# Altium integrated library Rosenberger SMP.IntLib: 18 symbols
Pins are listed as number, name and electrical type; pins without a type are passive.

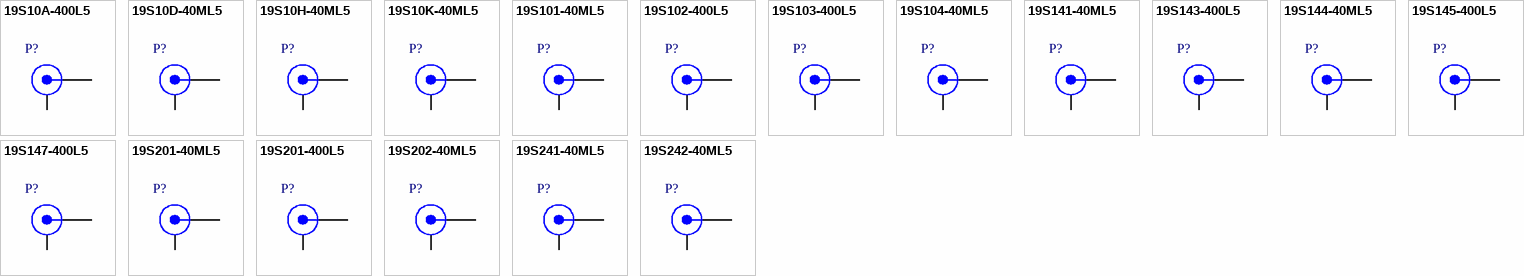
[diagram p0: symbols 19S10A-400L5 to 19S242-40ML5]

## 19S10A-400L5
designator P?
SMP Straight Plug, Limited Detent, Small, Up to 26.5 GHz, -65 to 155 degC; PartNumber: 19S10A-400L5; Design Note: Footprint in library is a generic example - only application specific footprint delivers High Performance; DatasheetVersion: f00; PackageVersion: f00; PackageReference: 19S10A-400L5; PackageDescription: SMP Straight Plug Limited Detent, Small, 6.5 x 6 x 5.4 mm; Detention force: limited detent; Mounting Technology: Through Hole; Lock-in Range: small; ComponentLink1Description: Manufacturer URL; ComponentLink1URL: http://www.rosenberger.de; ComponentLink2Description: Datasheet; ComponentLink2URL: http://rosenberger.de/ok/images/documents/db/19s10a-400L5.pdf; ComponentLink3Description: Package Specification; ComponentLink3URL: http://rosenberger.de/ok/images/documents/db/19s10a-400L5.pdf; ComponentLink4Description: Series Overview / Design Note; ComponentLink4URL: http://rosenberger.de/ok/images/documents/spez/19.pdf; ComponentLink5Description: Webshop / RFQ; ComponentLink5URL: http://www.rosenberger.com/en/contact/sales/
footprint ROS-19S10A-400L5_V (SMP Straight Plug Limited Detent, Small, 6.5x6x5.4mm, Rosenberger Recommended)
pins: 1, MH

## 19S10D-40ML5
designator P?
SMP Straight Plug, Limited Detent, Small, Up to 26.5 GHz, -65 to 155 degC; PartNumber: 19S10D-40ML5; Design Note: Footprint in library is a generic example - only application specific footprint delivers High Performance; DatasheetVersion: b00; PackageVersion: b00; PackageReference: 19S10D-40ML5; PackageDescription: SMP Straight Plug Limited Detent, Small, 6.5 x 6 x 0.7 mm; Detention force: limited detent; Mounting Technology: Surface Mount; Lock-in Range: small; ComponentLink1Description: Manufacturer URL; ComponentLink1URL: http://www.rosenberger.de; ComponentLink2Description: Datasheet; ComponentLink2URL: http://rosenberger.de/ok/images/documents/db/19S10D-40ML5.pdf; ComponentLink3Description: Package Specification; ComponentLink3URL: http://rosenberger.de/ok/images/documents/db/19S10D-40ML5.pdf; ComponentLink4Description: Series Overview / Design Note; ComponentLink4URL: http://rosenberger.de/ok/images/documents/spez/19.pdf; ComponentLink5Description: Webshop / RFQ; ComponentLink5URL: http://www.rosenberger.com/en/contact/sales/
footprint ROS-19S10D-40ML5_V (SMP Straight Plug Limited Detent, Small, 6.5x6x0.7mm, Rosenberger Recommended)
pins: 1, MP

## 19S10H-40ML5
designator P?
SMP Straight Plug, Limited Detent, Small, Up to 26.5 GHz, -65 to 155 degC; PartNumber: 19S10H-40ML5; Design Note: Footprint in library is a generic example - only application specific footprint delivers High Performance; DatasheetVersion: b00; PackageVersion: b00; PackageReference: 19S10H-40ML5; PackageDescription: SMP Straight Plug Limited Detent, Small, 6 x 5 x 5.4 mm; Detention force: limited detent; Mounting Technology: Surface Mount; Lock-in Range: small; ComponentLink1Description: Manufacturer URL; ComponentLink1URL: http://www.rosenberger.de; ComponentLink2Description: Datasheet; ComponentLink2URL: http://rosenberger.de/ok/images/documents/db/19S10H-40ML5.pdf; ComponentLink3Description: Package Specification; ComponentLink3URL: http://rosenberger.de/ok/images/documents/db/19S10H-40ML5.pdf; ComponentLink4Description: Series Overview / Design Note; ComponentLink4URL: http://rosenberger.de/ok/images/documents/spez/19.pdf; ComponentLink5Description: Webshop / RFQ; ComponentLink5URL: http://www.rosenberger.com/en/contact/sales/
footprint ROS-19S10H-40ML5_V (SMP Straight Plug Limited Detent, Small, 6x5x5.4mm, Rosenberger Recommended)
pins: 1, MP

## 19S10K-40ML5
designator P?
SMP Straight Plug, Limited Detent, Small, Up to 26.5 GHz, -65 to 155 degC; PartNumber: 19S10K-40ML5; Design Note: Footprint in library is a generic example - only application specific footprint delivers High Performance; DatasheetVersion: b00; PackageVersion: b00; PackageReference: 19S10K-40ML5; PackageDescription: SMP Straight Plug Limited Detent, Small, 5 x 5 x 5.45 mm; Detention force: limited detent; Mounting Technology: Surface Mount; Lock-in Range: small; ComponentLink1Description: Manufacturer URL; ComponentLink1URL: http://www.rosenberger.de; ComponentLink2Description: Datasheet; ComponentLink2URL: http://rosenberger.de/ok/images/documents/db/19S10K-40ML5.pdf; ComponentLink3Description: Package Specification; ComponentLink3URL: http://rosenberger.de/ok/images/documents/db/19S10K-40ML5.pdf; ComponentLink4Description: Series Overview / Design Note; ComponentLink4URL: http://rosenberger.de/ok/images/documents/spez/19.pdf; ComponentLink5Description: Webshop / RFQ; ComponentLink5URL: http://www.rosenberger.com/en/contact/sales/
footprint ROS-19S10K-40ML5_V (SMP Straight Plug Limited Detent, Small, 5x5x5.45mm, Rosenberger Recommended)
pins: 1, MP

## 19S101-40ML5
designator P?
SMP Straight Plug, Limited Detent, Small, Up to 26.5 GHz, -65 to 155 degC; PartNumber: 19S101-40ML5; Design Note: Footprint in library is a generic example - only application specific footprint delivers High Performance; DatasheetVersion: a00; PackageVersion: a00; PackageReference: 19S101-40ML5; PackageDescription: SMP Straight Plug Limited Detent, Small, 6 x 5 x 4.1 mm; Detention force: limited detent; Mounting Technology: Surface Mount; Lock-in Range: small; ComponentLink1Description: Manufacturer URL; ComponentLink1URL: http://www.rosenberger.de; ComponentLink2Description: Datasheet; ComponentLink2URL: http://rosenberger.de/ok/images/documents/db/19S101-40ML5.pdf; ComponentLink3Description: Package Specification; ComponentLink3URL: http://rosenberger.de/ok/images/documents/db/19S101-40ML5.pdf; ComponentLink4Description: Series Overview / Design Note; ComponentLink4URL: http://rosenberger.de/ok/images/documents/spez/19.pdf; ComponentLink5Description: Webshop / RFQ; ComponentLink5URL: http://www.rosenberger.com/en/contact/sales/
footprint ROS-19S101-40ML5_V (SMP Straight Plug Limited Detent, Small, 6x5x4.1mm, Rosenberger Recommended)
pins: 1, MP

## 19S102-400L5
designator P?
SMP Straight Plug, Limited Detent, Small, Up to 26.5 GHz, -65 to 155 degC; PartNumber: 19S102-400L5; Design Note: Footprint in library is a generic example - only application specific footprint delivers High Performance; DatasheetVersion: a00; PackageVersion: a00; PackageReference: 19S102-400L5; PackageDescription: SMP Straight Plug Limited Detent, Small, 6 x 6 x 4.1 mm; Detention force: limited detent; Mounting Technology: Through Hole; Lock-in Range: small; ComponentLink1Description: Manufacturer URL; ComponentLink1URL: http://www.rosenberger.de; ComponentLink2Description: Datasheet; ComponentLink2URL: http://rosenberger.de/ok/images/documents/db/19S102-400L5.pdf; ComponentLink3Description: Package Specification; ComponentLink3URL: http://rosenberger.de/ok/images/documents/db/19S102-400L5.pdf; ComponentLink4Description: Series Overview / Design Note; ComponentLink4URL: http://rosenberger.de/ok/images/documents/spez/19.pdf; ComponentLink5Description: Webshop / RFQ; ComponentLink5URL: http://www.rosenberger.com/en/contact/sales/
footprint ROS-19S102-400L5_V (SMP Straight Plug Limited Detent, Small, 6x6x4.1mm, Rosenberger Recommended)
pins: 1, MH

## 19S103-400L5
designator P?
SMP Straight Plug, Limited Detent, Small, Up to 26.5 GHz, -65 to 155 degC; PartNumber: 19S103-400L5; Design Note: Footprint in library is a generic example - only application specific footprint delivers High Performance; DatasheetVersion: a00; PackageVersion: a00; PackageReference: 19S103-400L5; PackageDescription: SMP Straight Plug Limited Detent, Small, 6.5 x 6 x 4.1 mm; Detention force: limited detent; Mounting Technology: Through Hole; Lock-in Range: small; ComponentLink1Description: Manufacturer URL; ComponentLink1URL: http://www.rosenberger.de; ComponentLink2Description: Datasheet; ComponentLink2URL: http://rosenberger.de/ok/images/documents/db/19S103-400L5.pdf; ComponentLink3Description: Package Specification; ComponentLink3URL: http://rosenberger.de/ok/images/documents/db/19S103-400L5.pdf; ComponentLink4Description: Series Overview / Design Note; ComponentLink4URL: http://rosenberger.de/ok/images/documents/spez/19.pdf; ComponentLink5Description: Webshop / RFQ; ComponentLink5URL: http://www.rosenberger.com/en/contact/sales/
footprint ROS-19S103-400L5_V (SMP Straight Plug Limited Detent, Small, 6.5x6x4.1mm, Rosenberger Recommended)
pins: 1, MH

## 19S104-40ML5
designator P?
SMP Straight Plug, Limited Detent, Small, Up to 26.5 GHz, -65 to 155 degC; PartNumber: 19S104-40ML5; Design Note: Footprint in library is a generic example - only application specific footprint delivers High Performance; DatasheetVersion: e00; PackageVersion: e00; PackageReference: 19S104-40ML5; PackageDescription: SMP Straight Plug Limited Detent, Small, 5 x 5 x 4.1 mm; Detention force: limited detent; Mounting Technology: Surface Mount; Lock-in Range: small; ComponentLink1Description: Manufacturer URL; ComponentLink1URL: http://www.rosenberger.de; ComponentLink2Description: Datasheet; ComponentLink2URL: http://rosenberger.de/ok/images/documents/db/19S104-40ML5.pdf; ComponentLink3Description: Package Specification; ComponentLink3URL: http://rosenberger.de/ok/images/documents/db/19S104-40ML5.pdf; ComponentLink4Description: Series Overview / Design Note; ComponentLink4URL: http://rosenberger.de/ok/images/documents/spez/19.pdf; ComponentLink5Description: Webshop / RFQ; ComponentLink5URL: http://www.rosenberger.com/en/contact/sales/
footprint ROS-19S104-40ML5_V (SMP Straight Plug Limited Detent, Small, 5x5x4.1mm, Rosenberger Recommended)
pins: 1, MP

## 19S141-40ML5
designator P?
SMP Straight Plug, Smooth Bore, Small, Up to 26.5 GHz, -65 to 155 degC; PartNumber: 19S141-40ML5; Design Note: Footprint in library is a generic example - only application specific footprint delivers High Performance; DatasheetVersion: b00; PackageVersion: b00; PackageReference: 19S141-40ML5; PackageDescription: SMP Straight Plug Smooth Bore, Small, 6 x 5 x 4.1 mm; Detention force: smooth bore; Mounting Technology: Surface Mount; Lock-in Range: small; ComponentLink1Description: Manufacturer URL; ComponentLink1URL: http://www.rosenberger.de; ComponentLink2Description: Datasheet; ComponentLink2URL: http://rosenberger.de/ok/images/documents/db/19S141-40ML5.pdf; ComponentLink3Description: Package Specification; ComponentLink3URL: http://rosenberger.de/ok/images/documents/db/19S141-40ML5.pdf; ComponentLink4Description: Series Overview / Design Note; ComponentLink4URL: http://rosenberger.de/ok/images/documents/spez/19.pdf; ComponentLink5Description: Webshop / RFQ; ComponentLink5URL: http://www.rosenberger.com/en/contact/sales/
footprint ROS-19S141-40ML5_V (SMP Straight Plug Smooth Bore, Small, 6x5x4.1mm, Rosenberger Recommended)
pins: 1, MP

## 19S143-400L5
designator P?
SMP Straight Plug, Smooth Bore, Small, Up to 26.5 GHz, -65 to 155 degC; PartNumber: 19S143-400L5; Design Note: Footprint in library is a generic example - only application specific footprint delivers High Performance; DatasheetVersion: a00; PackageVersion: a00; PackageReference: 19S143-400L5; PackageDescription: SMP Straight Plug Smooth Bore, Small, 6.5 x 6 x 4.1 mm; Detention force: smooth bore; Mounting Technology: Through Hole; Lock-in Range: small; ComponentLink1Description: Manufacturer URL; ComponentLink1URL: http://www.rosenberger.de; ComponentLink2Description: Datasheet; ComponentLink2URL: http://rosenberger.de/ok/images/documents/db/19S143-400L5.pdf; ComponentLink3Description: Package Specification; ComponentLink3URL: http://rosenberger.de/ok/images/documents/db/19S143-400L5.pdf; ComponentLink4Description: Series Overview / Design Note; ComponentLink4URL: http://rosenberger.de/ok/images/documents/spez/19.pdf; ComponentLink5Description: Webshop / RFQ; ComponentLink5URL: http://www.rosenberger.com/en/contact/sales/
footprint ROS-19S143-400L5_V (SMP Straight Plug Smooth Bore, Small, 6.5x6x4.1mm, Rosenberger Recommended)
pins: 1, MH

## 19S144-40ML5
designator P?
SMP Straight Plug, Smooth Bore, Catchers-mitt, Up to 26.5 GHz, -65 to 155 degC; PartNumber: 19S144-40ML5; Design Note: Footprint in library is a generic example - only application specific footprint delivers High Performance; DatasheetVersion: a00; PackageVersion: a00; PackageReference: 19S144-40ML5; PackageDescription: SMP Straight Plug Smooth Bore, Catchers-mitt, 6.5 x 6 x 4.1 mm; Detention force: smooth bore; Mounting Technology: Surface Mount; Lock-in Range: catchers-mitt; ComponentLink1Description: Manufacturer URL; ComponentLink1URL: http://www.rosenberger.de; ComponentLink2Description: Datasheet; ComponentLink2URL: http://rosenberger.de/ok/images/documents/db/19S144-40ML5.pdf; ComponentLink3Description: Package Specification; ComponentLink3URL: http://rosenberger.de/ok/images/documents/db/19S144-40ML5.pdf; ComponentLink4Description: Series Overview / Design Note; ComponentLink4URL: http://rosenberger.de/ok/images/documents/spez/19.pdf; ComponentLink5Description: Webshop / RFQ; ComponentLink5URL: http://www.rosenberger.com/en/contact/sales/
footprint ROS-19S144-40ML5_V (SMP Straight Plug Smooth Bore, Catchers-mitt, 6.5x6x4.1mm, Rosenberger Recommended)
pins: 1, MP

## 19S145-400L5
designator P?
SMP Straight Plug, Smooth Bore, Catchers-mitt, Up to 26.5 GHz, -65 to 155 degC; PartNumber: 19S145-400L5; Design Note: Footprint in library is a generic example - only application specific footprint delivers High Performance; DatasheetVersion: b00; PackageVersion: b00; PackageReference: 19S145-400L5; PackageDescription: SMP Straight Plug Smooth Bore, Catchers-mitt, 6 x 6 x 4.1 mm; Detention force: smooth bore; Mounting Technology: Through Hole; Lock-in Range: catchers-mitt; ComponentLink1Description: Manufacturer URL; ComponentLink1URL: http://www.rosenberger.de; ComponentLink2Description: Datasheet; ComponentLink2URL: http://rosenberger.de/ok/images/documents/db/19S145-400L5.pdf; ComponentLink3Description: Package Specification; ComponentLink3URL: http://rosenberger.de/ok/images/documents/db/19S145-400L5.pdf; ComponentLink4Description: Series Overview / Design Note; ComponentLink4URL: http://rosenberger.de/ok/images/documents/spez/19.pdf; ComponentLink5Description: Webshop / RFQ; ComponentLink5URL: http://www.rosenberger.com/en/contact/sales/
footprint ROS-19S145-400L5_V (SMP Straight Plug Smooth Bore, Catchers-mitt, 6x6x4.1mm, Rosenberger Recommended)
pins: 1, MH

## 19S147-400L5
designator P?
SMP Straight Plug, Smooth Bore, Catchers-mitt, Up to 26.5 GHz, -65 to 155 degC; PartNumber: 19S147-400L5; Design Note: Footprint in library is a generic example - only application specific footprint delivers High Performance; DatasheetVersion: a00; PackageVersion: a00; PackageReference: 19S147-400L5; PackageDescription: SMP Straight Plug Smooth Bore, Catchers-mitt, 6.5 x 6 x 4.1 mm; Detention force: smooth bore; Mounting Technology: Through Hole; Lock-in Range: catchers-mitt; ComponentLink1Description: Manufacturer URL; ComponentLink1URL: http://www.rosenberger.de; ComponentLink2Description: Datasheet; ComponentLink2URL: http://rosenberger.de/ok/images/documents/db/19S147-400L5.pdf; ComponentLink3Description: Package Specification; ComponentLink3URL: http://rosenberger.de/ok/images/documents/db/19S147-400L5.pdf; ComponentLink4Description: Series Overview / Design Note; ComponentLink4URL: http://rosenberger.de/ok/images/documents/spez/19.pdf; ComponentLink5Description: Webshop / RFQ; ComponentLink5URL: http://www.rosenberger.com/en/contact/sales/
footprint ROS-19S147-400L5_V (SMP Straight Plug Smooth Bore, Catchers-mitt, 6.5x6x4.1mm, Rosenberger Recommended)
pins: 1, MH

## 19S201-40ML5
designator P?
SMP Right Angle Plug, Limited Detent, Small, Up to 26.5 GHz, -65 to 155 degC; PartNumber: 19S201-40ML5; Design Note: Footprint in library is a generic example - only application specific footprint delivers High Performance; DatasheetVersion: f00; PackageVersion: f00; PackageReference: 19S201-40ML5; PackageDescription: SMP Right Angle Plug Limited Detent, Small, 5.3 x 5 x 5 mm; Detention force: limited detent; Mounting Technology: Surface Mount; Lock-in Range: small; ComponentLink1Description: Manufacturer URL; ComponentLink1URL: http://www.rosenberger.de; ComponentLink2Description: Datasheet; ComponentLink2URL: http://rosenberger.de/ok/images/documents/db/19S201-40ML5.pdf; ComponentLink3Description: Package Specification; ComponentLink3URL: http://rosenberger.de/ok/images/documents/db/19S201-40ML5.pdf; ComponentLink4Description: Series Overview / Design Note; ComponentLink4URL: http://rosenberger.de/ok/images/documents/spez/19.pdf; ComponentLink5Description: Webshop / RFQ; ComponentLink5URL: http://www.rosenberger.com/en/contact/sales/
footprint ROS-19S201-40ML5_V (SMP Right Angle Plug Limited Detent, Small, 5.3x5x5mm, Rosenberger Recommended)
pins: 1, MP

## 19S201-400L5
designator P?
SMP Right Angle Plug, Limited Detent, Small, Up to 26.5 GHz, -65 to 155 degC; PartNumber: 19S201-400L5; Design Note: Footprint in library is a generic example - only application specific footprint delivers High Performance; DatasheetVersion: e00; PackageVersion: e00; PackageReference: 19S201-400L5; PackageDescription: SMP Right Angle Plug Limited Detent, Small, 8.35 x 6 x 6 mm; Detention force: limited detent; Mounting Technology: Through Hole; Lock-in Range: small; ComponentLink1Description: Manufacturer URL; ComponentLink1URL: http://www.rosenberger.de; ComponentLink2Description: Datasheet; ComponentLink2URL: http://rosenberger.de/ok/images/documents/db/19S201-400L5.pdf; ComponentLink3Description: Package Specification; ComponentLink3URL: http://rosenberger.de/ok/images/documents/db/19S201-400L5.pdf; ComponentLink4Description: Series Overview / Design Note; ComponentLink4URL: http://rosenberger.de/ok/images/documents/spez/19.pdf; ComponentLink5Description: Webshop / RFQ; ComponentLink5URL: http://www.rosenberger.com/en/contact/sales/
footprint ROS-19S201-400L5_V (SMP Right Angle Plug Limited Detent, Small, 8.35x6x6mm, Rosenberger Recommended)
pins: 1, MH

## 19S202-40ML5
designator P?
SMP Right Angle Plug, Edge Mount, Limited Detent, Small, Up to 26.5 GHz, -65 to 155 degC; PartNumber: 19S202-40ML5; Design Note 1: Footprint in library is a generic example - only application specific footprint delivers High Performance; Desgin Note 2: For more information about DRC setting, please look at following webpage, http://techdocs.altium.com/display/SCRT/Design+Rule+for+Edge-Mount+Connectors; DatasheetVersion: d00; PackageVersion: d00; PackageReference: 19S202-40ML5; PackageDescription: SMP Right Angle Plug Limited Detent, Small, 7.4 x 5 x 4 mm; Detention force: limited detent; Mounting Technology: Surface Mount; Lock-in Range: small; ComponentLink1Description: Manufacturer URL; ComponentLink1URL: http://www.rosenberger.de; ComponentLink2Description: Datasheet; ComponentLink2URL: http://rosenberger.de/ok/images/documents/db/19S202-40ML5.pdf; ComponentLink3Description: Package Specification; ComponentLink3URL: http://rosenberger.de/ok/images/documents/db/19S202-40ML5.pdf; ComponentLink4Description: Series Overview / Design Note; ComponentLink4URL: http://rosenberger.de/ok/images/documents/spez/19.pdf; ComponentLink5Description: Webshop / RFQ; ComponentLink5URL: http://www.rosenberger.com/en/contact/sales/
footprint ROS-19S202-40ML5_V (SMP Right Angle Plug Limited Detent, Small, 7.4x5x4mm, Rosenberger Recommended)
pins: 1, MP

## 19S241-40ML5
designator P?
SMP Right Angle Plug, Smooth Bore, Small, Up to 26.5 GHz, -65 to 155 degC; PartNumber: 19S241-40ML5; Design Note: Footprint in library is a generic example - only application specific footprint delivers High Performance; DatasheetVersion: b00; PackageVersion: b00; PackageReference: 19S241-40ML5; PackageDescription: SMP Right Angle Plug Smooth Bore, Small, 5.3 x 5 x 5 mm; Detention force: smooth bore; Mounting Technology: Surface Mount; Lock-in Range: small; ComponentLink1Description: Manufacturer URL; ComponentLink1URL: http://www.rosenberger.de; ComponentLink2Description: Datasheet; ComponentLink2URL: http://rosenberger.de/ok/images/documents/db/19S241-40ML5.pdf; ComponentLink3Description: Package Specification; ComponentLink3URL: http://rosenberger.de/ok/images/documents/db/19S241-40ML5.pdf; ComponentLink4Description: Series Overview / Design Note; ComponentLink4URL: http://rosenberger.de/ok/images/documents/spez/19.pdf; ComponentLink5Description: Webshop / RFQ; ComponentLink5URL: http://www.rosenberger.com/en/contact/sales/
footprint ROS-19S241-40ML5_V (SMP Right Angle Plug Smooth Bore, Small, 5.3x5x5mm, Rosenberger Recommended)
pins: 1, MP

## 19S242-40ML5
designator P?
SMP Right Angle Plug, Edge Mount, Smooth Bore, Small, Up to 26.5 GHz, -65 to 155 degC; PartNumber: 19S242-40ML5; Design Note 1: Footprint in library is a generic example - only application specific footprint delivers High Performance; Desgin Note 2: For more information about DRC setting, please look at following webpage, http://techdocs.altium.com/display/SCRT/Design+Rule+for+Edge-Mount+Connectors; DatasheetVersion: d00; PackageVersion: d00; PackageReference: 19S242-40ML5; PackageDescription: SMP Right Angle Plug Smooth Bore, Small, 7.4 x 5 x 4 mm; Detention force: smooth bore; Mounting Technology: Surface Mount; Lock-in Range: small; ComponentLink1Description: Manufacturer URL; ComponentLink1URL: http://www.rosenberger.de; ComponentLink2Description: Datasheet; ComponentLink2URL: http://rosenberger.de/ok/images/documents/db/19s242-40ML5.pdf; ComponentLink3Description: Package Specification; ComponentLink3URL: http://rosenberger.de/ok/images/documents/db/19S242-40ML5.pdf; ComponentLink4Description: Series Overview / Design Note; ComponentLink4URL: http://rosenberger.de/ok/images/documents/spez/19.pdf; ComponentLink5Description: Webshop / RFQ; ComponentLink5URL: http://www.rosenberger.com/en/contact/sales/
footprint ROS-19S242-40ML5_V (SMP Right Angle Plug Smooth Bore, Small, 7.4x5x4mm, Rosenberger Recommended)
pins: 1, MP